# Altium footprint library BJT.PcbLib: 3 footprints
Each footprint in its own frame and in the unit in brackets; x right, y up, seen from the top. Pads: shape width x height; smd on the part's side, far side on the other; paste and mask are expansions set on the pad; w line width, h text height; cw(c..) or ccw(c..) is an arc to the next point about the centre after c.
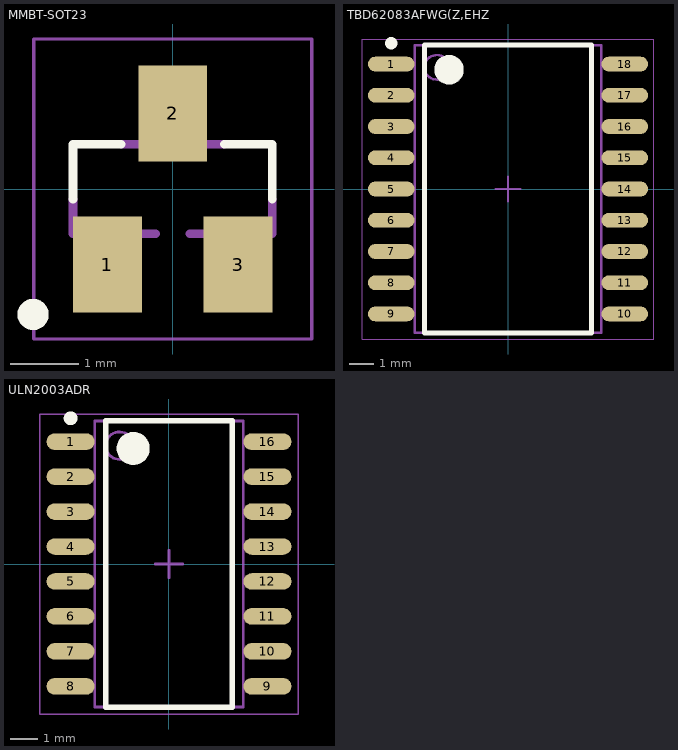
[diagram p0: the footprints below, top view; thin cyan lines are the x and y axes]

## MMBT-SOT23 [mm]
pads (3):
  rect 1x1.4 smd: 1(-0.95,-1.1) 2(0,1.1) 3(0.95,-1.1)
Top Overlay:
  circle w0.254: c-2.032,-1.825 r0.1
  lines w0.127: -1.45,-0.15 -1.45,0.65 -0.75,0.65 ; 0.75,0.65 1.45,0.65 1.45,-0.15
Top Designator:
  text ".Designator" at -5.998,-0.4 h1.2
Mechanical 13:
  region: 0.229,0.711 -0.229,0.711 -0.229,1.295 0.229,1.295
  region: 1.168,-1.296 0.712,-1.296 0.712,-0.711 1.168,-0.711
  region: -0.711,-1.298 -1.171,-1.298 -1.171,-0.711 -0.711,-0.711
  lines w0.127: -1.45,-0.15 -1.45,-0.65 -0.25,-0.65 ; -0.75,0.65 0.75,0.65 ; 0.25,-0.65 1.45,-0.65 1.45,-0.15
Mechanical 15:
  lines w0.051: -2.023,-2.183 2.023,-2.183 2.023,2.183 -2.023,2.183 -2.023,-2.183
3D body "MMBT3904.STEP": height 1.1, standoff 0, extent -1.45,-1.3 1.45,1.2

## TBD62083AFWG(Z,EHZ [mm] "SOIC, 18-Leads, Body 11.52x7.50mm, Pitch 1.27mm, IPC Medium Density"
height 2.85
pads (18):
  oval 1.9x0.6 smd: 1(-4.75,5.08) 2(-4.75,3.81) 3(-4.75,2.54) 4(-4.75,1.27) 5(-4.75,0) 6(-4.75,-1.27) 7(-4.75,-2.54) 8(-4.75,-3.81) 9(-4.75,-5.08) 10(4.75,-5.08) 11(4.75,-3.81) 12(4.75,-2.54) 13(4.75,-1.27) 14(4.75,0) 15(4.75,1.27) 16(4.75,2.54) 17(4.75,3.81) 18(4.75,5.08)
Top Overlay:
  circle w0.6: c-2.4,4.85 r0.3
  circle w0.25: c-4.75,5.93 r0.125
  lines w0.2: -3.4,-5.85 3.4,-5.85 3.4,5.85 -3.4,5.85 -3.4,-5.85
Top Designator:
  text ".Designator" at -5.998,-0.4 h1.2
Mechanical 13:
  circle w0.1: c-2.9,4.95 r0.5
  lines w0.1: -3.8,-5.85 3.8,-5.85 3.8,5.85 -3.8,5.85 -3.8,-5.85
Mechanical 15:
  lines w0.05: -5.925,-6.1 5.925,-6.1 5.925,6.1 -5.925,6.1 -5.925,-6.1
  lines w0.1: -0.5,0 0.5,0 ; 0,-0.5 0,0.5
3D body "SOIC127P1030X285-18N.step": height 2.85, standoff 0, extent -5.16,-5.85 5.16,5.85

## ULN2003ADR [mm] "SOIC, 16-Leads, Body 10.20x5.30mm, Pitch 1.27mm, IPC Medium Density"
height 2
pads (16):
  oval 1.75x0.6 smd: 1(-3.575,4.445) 2(-3.575,3.175) 3(-3.575,1.905) 4(-3.575,0.635) 5(-3.575,-0.635) 6(-3.575,-1.905) 7(-3.575,-3.175) 8(-3.575,-4.445) 9(3.575,-4.445) 10(3.575,-3.175) 11(3.575,-1.905) 12(3.575,-0.635) 13(3.575,0.635) 14(3.575,1.905) 15(3.575,3.175) 16(3.575,4.445)
Top Overlay:
  circle w0.6: c-1.3,4.2 r0.3
  circle w0.25: c-3.575,5.295 r0.125
  lines w0.2: -2.3,-5.2 2.3,-5.2 2.3,5.2 -2.3,5.2 -2.3,-5.2
Top Designator:
  text ".Designator" at -5.998,-0.4 h1.2
Mechanical 13:
  circle w0.1: c-1.8,4.3 r0.5
  lines w0.1: -2.7,-5.2 2.7,-5.2 2.7,5.2 -2.7,5.2 -2.7,-5.2
Mechanical 15:
  lines w0.05: -4.7,-5.45 4.7,-5.45 4.7,5.45 -4.7,5.45 -4.7,-5.45
  lines w0.1: -0.5,0 0.5,0 ; 0,-0.5 0,0.5
3D body "SOIC127P780X200-16N.step": height 2, standoff 0, extent -3.9,-5.2 3.9,5.2